# Altium schematic symbol library Schlib_OtherComponents.SchLib: 1 symbol
Pins are listed as number, name and electrical type; pins without a type are passive.

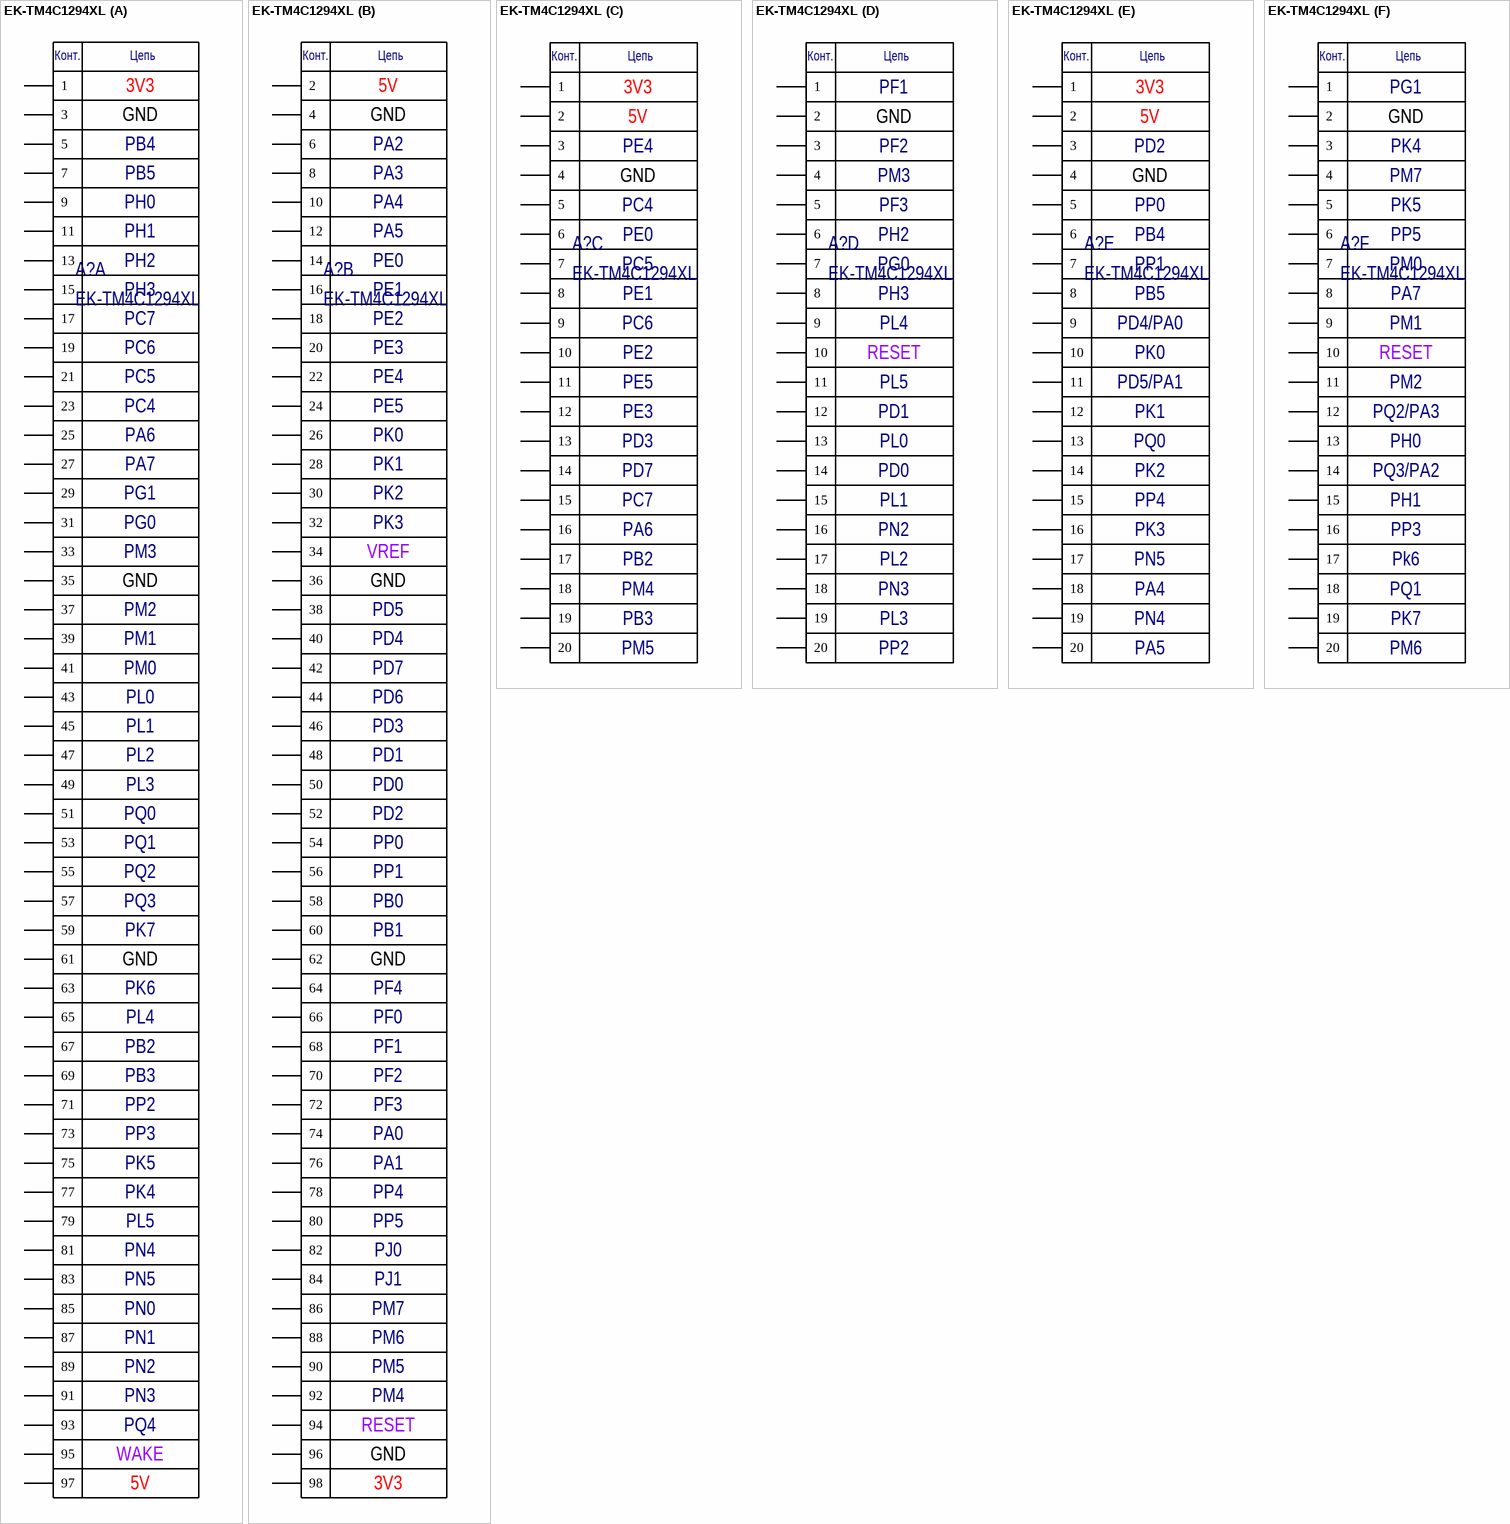
[diagram p0: symbol EK-TM4C1294XL]

## EK-TM4C1294XL
designator A?
Tiva™ C Series TM4C1294 Connected LaunchPad Evaluation Kit; Manufacturer: Texas Instruments; Part Number: EK-TM4C1294XL
part A pins: 1 (power), 3 (power), 5, 7, 9, 11, 13, 15, 17, 19, 21, 23, 25, 27, 29, 31, 33, 35 (power), 37, 39, 41, 43, 45, 47, 49, 51, 53, 55, 57, 59, 61 (power), 63, 65, 67, 69, 71, 73, 75, 77, 79, 81, 83, 85, 87, 89, 91, 93, 95, 97 (power)
part B pins: 2 (power), 4 (power), 6, 8, 10, 12, 14, 16, 18, 20, 22, 24, 26, 28, 30, 32, 34, 36 (power), 38, 40, 42, 44, 46, 48, 50, 52, 54, 56, 58, 60, 62 (power), 64, 66, 68, 70, 72, 74, 76, 78, 80, 82, 84, 86, 88, 90, 92, 94, 96 (power), 98 (power)
part C pins: 1 (power), 2 (power), 3, 4 (power), 5, 6, 7, 8, 9, 10, 11, 12, 13, 14, 15, 16, 17, 18, 19, 20
part D pins: 1, 2 (power), 3, 4, 5, 6, 7, 8, 9, 10, 11, 12, 13, 14, 15, 16, 17, 18, 19, 20
part E pins: 1 (power), 2 (power), 3, 4 (power), 5, 6, 7, 8, 9, 10, 11, 12, 13, 14, 15, 16, 17, 18, 19, 20
part F pins: 1, 2, 3, 4, 5, 6, 7, 8, 9, 10, 11, 12, 13, 14, 15, 16, 17, 18, 19, 20
part A text: Конт.; Цепь; 3V3; GND; PB4; PB5; PH0; PH1; PH2; PH3; PC7; PC6; PC5; PC4; PA6; PA7; PG1; PG0; PM3; PM2; PM1; PM0; PL0; PL1; PL2; PL3; PQ0; PQ1; PQ2; PQ3; PK7; PK6; PL4; PB2; PB3; PP2; PP3; PK5; PK4; PL5; PN4; PN5; PN0; PN1; PN2; PN3; PQ4; WAKE; 5V
part B text: Конт.; Цепь; 5V; GND; PA2; PA3; PA4; PA5; PE0; PE1; PE2; PE3; PE4; PE5; PK0; PK1; PK2; PK3; VREF; PD5; PD4; PD7; PD6; PD3; PD1; PD0; PD2; PP0; PP1; PB0; PB1; PF4; PF0; PF1; PF2; PF3; PA0; PA1; PP4; PP5; PJ0; PJ1; PM7; PM6; PM5; PM4; RESET; 3V3
part C text: Конт.; Цепь; 3V3; 5V; PE4; GND; PC4; PE0; PC5; PE1; PC6; PE2; PE5; PE3; PD3; PD7; PC7; PA6; PB2; PM4; PB3; PM5
part D text: Конт.; Цепь; PF1; GND; PF2; PM3; PF3; PH2; PG0; PH3; PL4; RESET; PL5; PD1; PL0; PD0; PL1; PN2; PL2; PN3; PL3; PP2
part E text: Конт.; Цепь; 3V3; 5V; PD2; GND; PP0; PB4; PP1; PB5; PD4/PA0; PK0; PD5/PA1; PK1; PQ0; PK2; PP4; PK3; PN5; PA4; PN4; PA5
part F text: Конт.; Цепь; PG1; GND; PK4; PM7; PK5; PP5; PM0; PA7; PM1; RESET; PM2; PQ2/PA3; PH0; PQ3/PA2; PH1; PP3; Pk6; PQ1; PK7; PM6